# EAGLE library part MT46V32M16 (library dan-dram)
Micron MT46V32M16 512Mb x16 DDR SDRAM
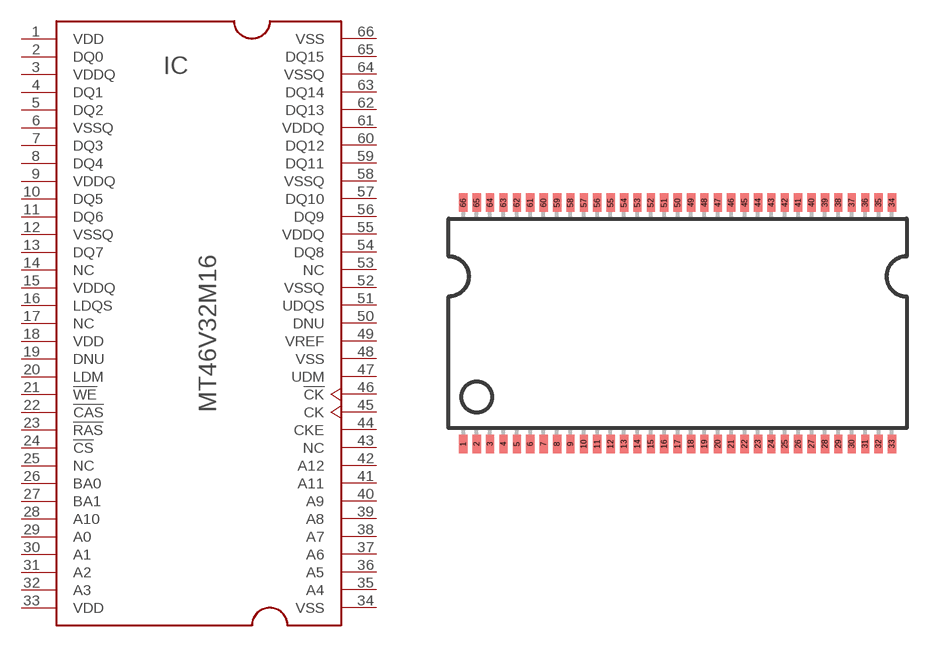
[diagram p1: symbol with the pads of TSOP66; footprint TSOP66]

Designator prefix IC

## MT46V32M16  [TSOP66]
1  VDD  pas
2  DQ0
3  VDDQ  pas
4  DQ1
5  DQ2
6  VSSQ  pas
7  DQ3
8  DQ4
9  VDDQ  pas
10  DQ5
11  DQ6
12  VSSQ  pas
13  DQ7
14  NC  nc
15  VDDQ  pas
16  LDQS
17  NC  nc
18  VDD  pas
19  DNU  nc
20  LDM  in
21  !WE  in
22  !CAS  in
23  !RAS  in
24  !CS  in
25  NC  nc
26  BA0  in
27  BA1  in
28  A10  in
29  A0  in
30  A1  in
31  A2  in
32  A3  in
33  VDD  pas
34  VSS  pas
35  A4  in
36  A5  in
37  A6  in
38  A7  in
39  A8  in
40  A9  in
41  A11  in
42  A12  in
43  NC  nc
44  CKE  in
45  CK  in
46  !CK  in
47  UDM  in
48  VSS  pas
49  VREF  pas
50  DNU  nc
51  UDQS
52  VSSQ  pas
53  NC  nc
54  DQ8
55  VDDQ  pas
56  DQ9
57  DQ10
58  VSSQ  pas
59  DQ11
60  DQ12
61  VDDQ  pas
62  DQ13
63  DQ14
64  VSSQ  pas
65  DQ15
66  VSS  pas

## Footprint TSOP66 (pad centres in mm)
TSOP-66 From Micron MT46V32M16 datasheet
smd 0.4 x 0.9: 1 -10.4,-5.85; 2 -9.75,-5.85; 3 -9.1,-5.85; 4 -8.45,-5.85; 5 -7.8,-5.85; 6 -7.15,-5.85; 7 -6.5,-5.85; 8 -5.85,-5.85; 9 -5.2,-5.85; 10 -4.55,-5.85; 11 -3.9,-5.85; 12 -3.25,-5.85; 13 -2.6,-5.85; 14 -1.95,-5.85; 15 -1.3,-5.85; 16 -0.65,-5.85; 17 0,-5.85; 18 0.65,-5.85; 19 1.3,-5.85; 20 1.95,-5.85; 21 2.6,-5.85; 22 3.25,-5.85; 23 3.9,-5.85; 24 4.55,-5.85; 25 5.2,-5.85; 26 5.85,-5.85; 27 6.5,-5.85; 28 7.15,-5.85; 29 7.8,-5.85; 30 8.45,-5.85; 31 9.1,-5.85; 32 9.75,-5.85; 33 10.4,-5.85; 34 10.4,5.85; 35 9.75,5.85; 36 9.1,5.85; 37 8.45,5.85; 38 7.8,5.85; 39 7.15,5.85; 40 6.5,5.85; 41 5.85,5.85; 42 5.2,5.85; 43 4.55,5.85; 44 3.9,5.85; 45 3.25,5.85; 46 2.6,5.85; 47 1.95,5.85; 48 1.3,5.85; 49 0.65,5.85; 50 0,5.85; 51 -0.65,5.85; 52 -1.3,5.85; 53 -1.95,5.85; 54 -2.6,5.85; 55 -3.25,5.85; 56 -3.9,5.85; 57 -4.55,5.85; 58 -5.2,5.85; 59 -5.85,5.85; 60 -6.5,5.85; 61 -7.15,5.85; 62 -7.8,5.85; 63 -8.45,5.85; 64 -9.1,5.85; 65 -9.75,5.85; 66 -10.4,5.85